# Altium schematic symbol library HEADER_2x2.Schlib: 1 symbol
Pins are listed as number, name and electrical type; pins without a type are passive.

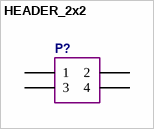
[diagram p0: symbol HEADER_2x2]

## HEADER_2x2
designator P?  (value not drawn)
pins: 1, 2, 3, 4